# Altium footprint library PSOC.PcbLib: 2 footprints
Each footprint in its own frame and in the unit in brackets; x right, y up, seen from the top. Pads: shape width x height; smd on the part's side, far side on the other; paste and mask are expansions set on the pad; w line width, h text height; cw(c..) or ccw(c..) is an arc to the next point about the centre after c.
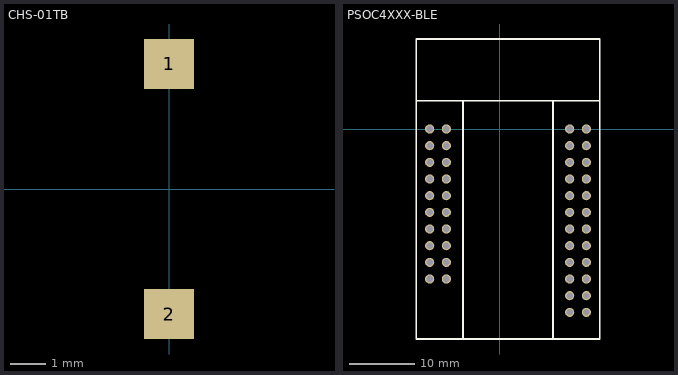
[diagram p0: the footprints below, top view; thin cyan lines are the x and y axes]

## CHS-01TB [mm]
pads (2):
  rect 1.4x1.4 smd: 1(0,3.5) 2(0,-3.5)

## PSOC4XXX-BLE [mil]
pads (44):
  round 55 hole 40: 0.0(-320,0) 0.1(-420,0) 0.2(-320,-100) 0.3(-420,-100) 0.4(-320,-200) 0.5(-420,-200) 0.6(-420,-500) 0.7(-420,-600) 1.0(-420,-300) 1.1(-320,-400) 1.2(-420,-400) 1.3(-320,-600) 1.4(-320,-500) 1.5(-320,-700) 1.6(-320,-900) 1.7(-320,-800) 2.0(420,-1000) 2.1(520,-1000) 2.2(420,-900) 2.3(520,-900) 2.4(420,-800) 2.5(520,-800) 2.6(420,-700) 2.7(520,-700) 3.0(420,-400) 3.1(520,-400) 3.2(420,-300) 3.3(520,-300) 3.4(420,-200) 3.5(520,-200) 3.6(420,-100) 3.7(520,-100) 4.0(420,-500) 4.1(420,-600) 5.0(520,-600) 5.1(520,-500) GND1(-420,-800) GND2(420,0) GND3(520,-1100) VDDA(520,0) VDDD(-420,-900) VDDR(420,-1100) VREF(-320,-300) XRES(-420,-700)
Top Overlay:
  lines w10: -500,170 600,170 ; -220,-1255 -220,170 ; 320,-1255 320,170 ; -500,-1260 -500,540 600,540 600,-1260 -500,-1260